# Altium schematic symbol library WSL2010R2000FEA18.SchLib: 2 symbols
Pins are listed as number, name and electrical type; pins without a type are passive.

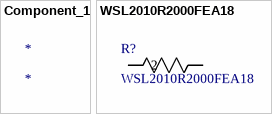
[diagram p0: symbols Component_1 to WSL2010R2000FEA18]

## Component_1
designator *

## WSL2010R2000FEA18
designator R?
No Description Available; Mfr_Name: Vishay; Copyright: Copyright (C) 2022 Ultra Librarian. All rights reserved.; Manufacturer_Part_Number: WSL2010R2000FEA18; RefDes: RefDes; Type: DEV
footprint RC2010N_VIS
pins: 1, 2